# Altium footprint library PcbLib1.PcbLib: 36 footprints (part 1 of 3)
Each footprint in its own frame and in the unit in brackets; x right, y up, seen from the top. Pads: shape width x height; smd on the part's side, far side on the other; paste and mask are expansions set on the pad; w line width, h text height; cw(c..) or ccw(c..) is an arc to the next point about the centre after c.
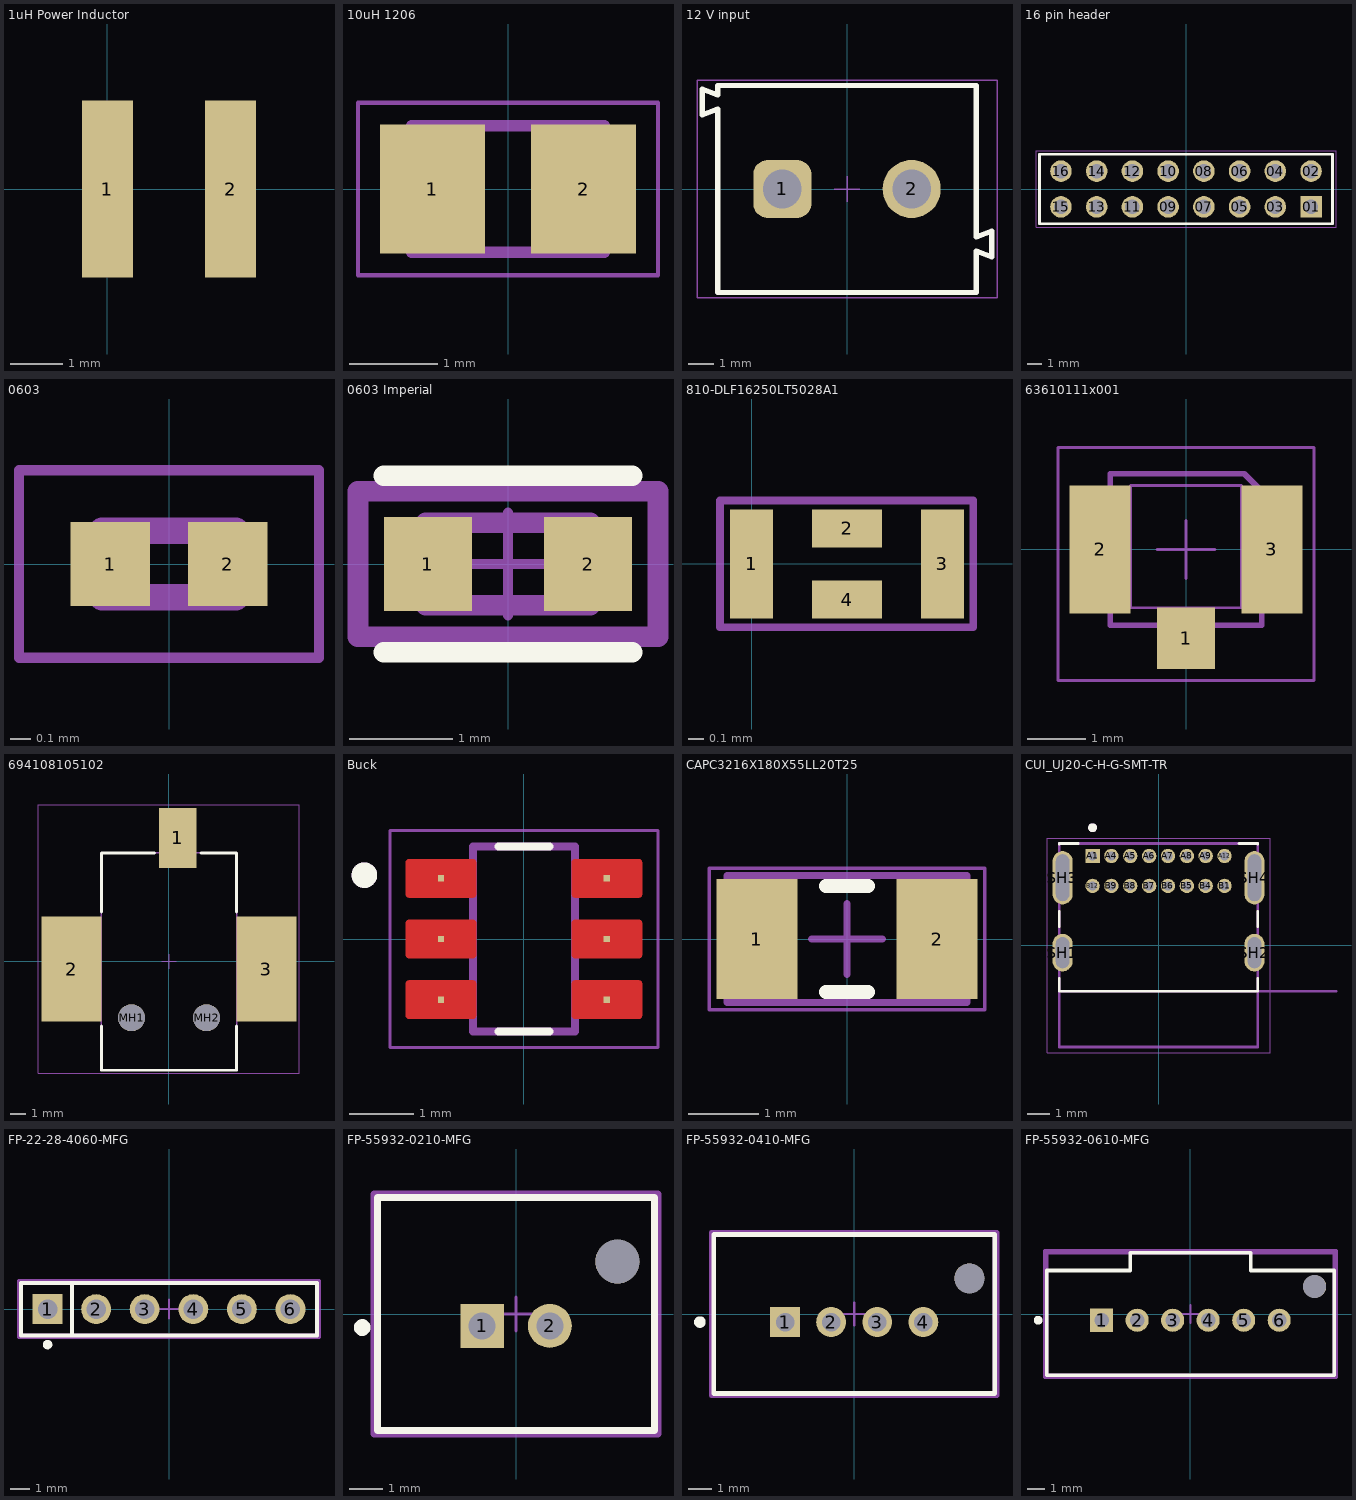
[diagram p0: the footprints below, top view; thin cyan lines are the x and y axes]

## 1uH Power Inductor [mm]
pads (2):
  rect 0.98x3.4 smd: 1(0,0) 2(2.37,0)

## 10uH 1206 [mm] "INDC2012X145N"
pads (2):
  rect 1.2x1.47 smd: 1(-0.86,0) 2(0.86,0)
Mechanical 13:
  lines w0.127: -1.1,-0.72 -1.1,0.72 1.1,0.72 1.1,-0.72 -1.1,-0.72
Mechanical 15:
  lines w0.05: -1.708,-0.983 -1.708,0.983 1.708,0.983 1.708,-0.983 -1.708,-0.983

## 12 V input [mm] "5,00mm - modular - green - Horizontal entry with pressure clamp - 10,0mm height - 02p, 691111710002"
height 10
pads (2):
  rrect50% 2.25x2.25 hole 1.5: 1(-2.5,0)
  round 2.25 hole 1.5: 2(2.5,0)
Top Overlay:
  lines w0.2: -5.6,2.865 -5,3.09 -5,-4 5,-4 5,-2.4 5.6,-2.625 5.6,-1.625 5,-1.85 5,4 -5,4 -5,3.64 -5.6,3.865 -5.6,2.865
Top 3D Body:
  lines w0.1: -5.6,2.865 -5,3.09 -5,-4 5,-4 5,-2.4 5.6,-2.625 5.6,-1.625 5,-1.85 5,4 -5,4 -5,3.64 -5.6,3.865 -5.6,2.865
Top Courtyard:
  lines w0.05: -5.8,-4.2 -5.8,4.2 5.8,4.2 5.8,-4.2 -5.8,-4.2
Top Designator:
  text ".Designator" at -7.498,-0.5 h1.5
Top Component Outline:
  lines w0.1: -5.6,2.865 -5.6,3.865 -5,3.64 -5,4 5,4 5,-1.85 5.6,-1.625 5.6,-2.625 5,-2.4 5,-4 -5,-4 -5,3.09 -5.6,2.865
Top Component Center:
  lines w0.05: -0.5,0 0.5,0 ; 0,-0.5 0,0.5
3D body "691111710002.stp": height 11.05, standoff -3.95, extent -5.6,-4 5.6,4

## 16 pin header [mm]
height 8.51
pads (16):
  rect 1.53x1.53 / inner round 1.53 / far side rect 1.53x1.53 hole 1.02: 01(8.89,-1.27)
  round 1.53 hole 1.02: 02(8.89,1.27) 03(6.35,-1.27) 04(6.35,1.27) 05(3.81,-1.27) 06(3.81,1.27) 07(1.27,-1.27) 08(1.27,1.27) 09(-1.27,-1.27) 10(-1.27,1.27) 11(-3.81,-1.27) 12(-3.81,1.27) 13(-6.35,-1.27) 14(-6.35,1.27) 15(-8.89,-1.27) 16(-8.89,1.27)
Top Overlay:
  lines w0.2: -10.415,-2.475 10.415,-2.475 10.415,2.475 -10.415,2.475 -10.415,-2.475
Mechanical 13:
  lines w0.1: -10.415,-2.475 10.415,-2.475 10.415,2.475 -10.415,2.475 -10.415,-2.475
Mechanical 15:
  lines w0.05: -10.665,-2.725 10.665,-2.725 10.665,2.725 -10.665,2.725 -10.665,-2.725

## 0603 [mm]
pads (2):
  rect 0.38x0.4 smd: 1(-0.281,0) 2(0.281,0)
Mechanical 13:
  lines w0.127: -0.32,-0.16 -0.32,0.16 0.32,0.16 0.32,-0.16 -0.32,-0.16
Mechanical 15:
  lines w0.05: -0.718,-0.448 -0.718,0.448 0.718,0.448 0.718,-0.448 -0.718,-0.448

## 0603 Imperial [mm]
pads (2):
  rect 0.859x0.912 smd paste+0 mask+0: 1(-0.777,0) 2(0.777,0)
Top Overlay:
  lines w0.2: -1.206,-0.856 1.206,-0.856 ; -1.206,0.856 1.206,0.856
Top 3D Body:
  lines w0.2: -0.8,-0.4 0.8,-0.4 0.8,0.4 -0.8,0.4 -0.8,-0.4
Top Courtyard:
  lines w0.2: -1.456,-0.706 1.456,-0.706 1.456,0.706 -1.456,0.706 -1.456,-0.706
Top Assembly:
  lines w0.2: -1.456,-0.706 1.456,-0.706 1.456,0.706 -1.456,0.706 -1.456,-0.706
Top Component Center:
  lines w0.1: -0.5,0 0.5,0 ; 0,-0.5 0,0.5
3D body "Res_Yageo_RC0603FR-07100KL_eec.STEP": height 0.25, standoff 0, extent -1.456,-0.706 1.456,0.706

## 810-DLF16250LT5028A1 [mm]
pads (4):
  rect 0.275x0.7 smd mask+0.025: 1(0,0) 3(1.225,0)
  rect 0.45x0.245 smd mask+0.025: 2(0.613,0.228) 4(0.613,-0.229)
Mechanical 15:
  lines w0.051: -0.203,-0.406 1.422,-0.406 1.422,0.406 -0.203,0.406 -0.203,-0.406

## 63610111x001 [mm] "RF CONNECTOR VERTICAL 1.25MM"
height 1.25
pads (3):
  rect 1x1.05 smd: 1(0,-1.525)
  rect 1.05x2.2 smd: 2(-1.475,0) 3(1.475,0)
Top 3D Body:
  lines w0.05: -0.95,-1 -0.95,1.1 0.95,1.1 0.95,-1 -0.95,-1
  lines w0.1: -1.3,-1.3 1.3,-1.3 1.3,1 1,1.3 -1.3,1.3 -1.3,-1.3
  text "Cutout  / prohibition  / area" at -1.05,-0.35 h0.2
Top Courtyard:
  lines w0.05: -0.5,0 0.5,0 ; 0,-0.5 0,0.5 ; -2.2,-2.25 -2.2,1.751 2.2,1.751 2.2,-2.25 -2.2,-2.25
Top Designator:
  text ".Designator" at -3.499,-0.233 h0.7
Top Component Outline:
  lines w0.1: -1.3,-1.3 -1.3,1.3 1,1.3 1.3,1 1.3,-1.3 -1.3,-1.3
3D body "63610111x001.stp": height 1.25, standoff 0, extent -1.5,-1.55 1.5,1.551

## 694108105102 [mm] "DC Power Jack Right Angled SMT ?6.4 with pegs"
height 11
pads (5):
  rect 2.5x4 smd: 1(0.6,8.25)
  rect 4x7 smd: 2(-6.5,-0.5) 3(6.5,-0.5)
  round 1.8 hole 1.8 unplated: MH1(-2.5,-3.75) MH2(2.5,-3.75)
Top Overlay:
  lines w0.2: -4.5,-4.3 -4.5,-7.25 4.5,-7.25 4.5,-4.3 ; -4.5,3.3 -4.5,7.25 -0.95,7.25 ; 2.15,7.25 4.5,7.25 4.5,3.3
Top 3D Body:
  lines w0.1: -4.5,-2.8 -7.6,-2.8 -7.6,1.8 -4.5,1.8 ; -0.3,7.25 -0.3,9.75 1.5,9.75 1.5,7.25 ; 4.5,-2.8 7.6,-2.8 7.6,1.8 4.5,1.8 ; -4.5,-7.25 -4.5,7.25 4.5,7.25 4.5,-7.25 -4.5,-7.25
Top Courtyard:
  lines w0.05: -0.5,0 0.5,0 ; 0,-0.5 0,0.5 ; -8.7,-7.45 8.7,-7.45 8.7,10.45 -8.7,10.45 -8.7,-7.45
Top Designator:
  text ".Designator" at -7.498,-0.5 h1.5
Top Component Outline:
  lines w0.1: -4.5,-2.8 -7.6,-2.8 -7.6,1.8 -4.5,1.8 ; -0.3,7.25 -0.3,9.75 1.5,9.75 1.5,7.25 ; 4.5,-2.8 7.6,-2.8 7.6,1.8 4.5,1.8 ; -4.5,-7.25 4.5,-7.25 4.5,7.25 -4.5,7.25 -4.5,-7.25
3D body "694108105102.stp": height 11.05, standoff -1.95, extent -7.6,-7.25 7.6,9.75

## Buck [mm] "IC_TPS560430X3FDBVR"
height 1.45
pads (6):
  rect 0.1x0.1 smd paste-1 mask+0: 1(-1.3,0.95) 2(-1.3,0) 3(-1.3,-0.95) 4(1.3,-0.95) 5(1.3,0) 6(1.3,0.95)
Top Layer:
  region: -0.792,0.299 -0.79,0.299 -0.787,0.298 -0.785,0.298 -0.782,0.297 -0.78,0.296 -0.777,0.295 -0.775,0.293 -0.773,0.292 -0.771,0.29 -0.769,0.289 -0.767,0.287 -0.765,0.285 -0.763,0.283 -0.761,0.281 -0.76,0.279 -0.758,0.277 -0.757,0.275 -0.755,0.273 -0.754,0.27 -0.753,0.268 -0.752,0.265 -0.752,0.263 -0.751,0.26 -0.751,0.258 -0.75,0.255 -0.75,0.253 -0.75,0.25 -0.75,-0.25 -0.75,-0.253 -0.75,-0.255 -0.751,-0.258 -0.751,-0.26 -0.752,-0.263 -0.752,-0.265 -0.753,-0.268 -0.754,-0.27 -0.755,-0.273 -0.757,-0.275 -0.758,-0.277 -0.76,-0.279 -0.761,-0.281 -0.763,-0.283 -0.765,-0.285 -0.767,-0.287 -0.769,-0.289 -0.771,-0.29 -0.773,-0.292 -0.775,-0.293 -0.777,-0.295 -0.78,-0.296 -0.782,-0.297 -0.785,-0.298 -0.787,-0.298 -0.79,-0.299 -0.792,-0.299 -0.795,-0.3 -1.805,-0.3 -1.808,-0.299 -1.81,-0.299 -1.813,-0.298 -1.815,-0.298 -1.818,-0.297 -1.82,-0.296 -1.823,-0.295 -1.825,-0.293 -1.827,-0.292 -1.829,-0.29 -1.831,-0.289 -1.833,-0.287 -1.835,-0.285 -1.837,-0.283 -1.839,-0.281 -1.84,-0.279 -1.842,-0.277 -1.843,-0.275 -1.845,-0.273 -1.846,-0.27 -1.847,-0.268 -1.848,-0.265 -1.848,-0.263 -1.849,-0.26 -1.849,-0.258 -1.85,-0.255 -1.85,-0.253 -1.85,-0.25 -1.85,0.25 -1.85,0.253 -1.85,0.255 -1.849,0.258 -1.849,0.26 -1.848,0.263 -1.848,0.265 -1.847,0.268 -1.846,0.27 -1.845,0.273 -1.843,0.275 -1.842,0.277 -1.84,0.279 -1.839,0.281 -1.837,0.283 -1.835,0.285 -1.833,0.287 -1.831,0.289 -1.829,0.29 -1.827,0.292 -1.825,0.293 -1.823,0.295 -1.82,0.296 -1.818,0.297 -1.815,0.298 -1.813,0.298 -1.81,0.299 -1.808,0.299 -1.805,0.3 -0.795,0.3
  region: -0.792,1.249 -0.79,1.249 -0.787,1.248 -0.785,1.248 -0.782,1.247 -0.78,1.246 -0.777,1.245 -0.775,1.243 -0.773,1.242 -0.771,1.24 -0.769,1.239 -0.767,1.237 -0.765,1.235 -0.763,1.233 -0.761,1.231 -0.76,1.229 -0.758,1.227 -0.757,1.225 -0.755,1.223 -0.754,1.22 -0.753,1.218 -0.752,1.215 -0.752,1.213 -0.751,1.21 -0.751,1.208 -0.75,1.205 -0.75,1.203 -0.75,1.2 -0.75,0.7 -0.75,0.697 -0.75,0.695 -0.751,0.692 -0.751,0.69 -0.752,0.687 -0.752,0.685 -0.753,0.682 -0.754,0.68 -0.755,0.677 -0.757,0.675 -0.758,0.673 -0.76,0.671 -0.761,0.669 -0.763,0.667 -0.765,0.665 -0.767,0.663 -0.769,0.661 -0.771,0.66 -0.773,0.658 -0.775,0.657 -0.777,0.655 -0.78,0.654 -0.782,0.653 -0.785,0.652 -0.787,0.652 -0.79,0.651 -0.792,0.651 -0.795,0.65 -1.805,0.65 -1.808,0.651 -1.81,0.651 -1.813,0.652 -1.815,0.652 -1.818,0.653 -1.82,0.654 -1.823,0.655 -1.825,0.657 -1.827,0.658 -1.829,0.66 -1.831,0.661 -1.833,0.663 -1.835,0.665 -1.837,0.667 -1.839,0.669 -1.84,0.671 -1.842,0.673 -1.843,0.675 -1.845,0.677 -1.846,0.68 -1.847,0.682 -1.848,0.685 -1.848,0.687 -1.849,0.69 -1.849,0.692 -1.85,0.695 -1.85,0.697 -1.85,0.7 -1.85,1.2 -1.85,1.203 -1.85,1.205 -1.849,1.208 -1.849,1.21 -1.848,1.213 -1.848,1.215 -1.847,1.218 -1.846,1.22 -1.845,1.223 -1.843,1.225 -1.842,1.227 -1.84,1.229 -1.839,1.231 -1.837,1.233 -1.835,1.235 -1.833,1.237 -1.831,1.239 -1.829,1.24 -1.827,1.242 -1.825,1.243 -1.823,1.245 -1.82,1.246 -1.818,1.247 -1.815,1.248 -1.813,1.248 -1.81,1.249 -1.808,1.249 -1.805,1.25 -0.795,1.25
  region: -0.792,-0.651 -0.79,-0.651 -0.787,-0.652 -0.785,-0.652 -0.782,-0.653 -0.78,-0.654 -0.777,-0.655 -0.775,-0.657 -0.773,-0.658 -0.771,-0.66 -0.769,-0.661 -0.767,-0.663 -0.765,-0.665 -0.763,-0.667 -0.761,-0.669 -0.76,-0.671 -0.758,-0.673 -0.757,-0.675 -0.755,-0.677 -0.754,-0.68 -0.753,-0.682 -0.752,-0.685 -0.752,-0.687 -0.751,-0.69 -0.751,-0.692 -0.75,-0.695 -0.75,-0.697 -0.75,-0.7 -0.75,-1.2 -0.75,-1.203 -0.75,-1.205 -0.751,-1.208 -0.751,-1.21 -0.752,-1.213 -0.752,-1.215 -0.753,-1.218 -0.754,-1.22 -0.755,-1.223 -0.757,-1.225 -0.758,-1.227 -0.76,-1.229 -0.761,-1.231 -0.763,-1.233 -0.765,-1.235 -0.767,-1.237 -0.769,-1.239 -0.771,-1.24 -0.773,-1.242 -0.775,-1.243 -0.777,-1.245 -0.78,-1.246 -0.782,-1.247 -0.785,-1.248 -0.787,-1.248 -0.79,-1.249 -0.792,-1.249 -0.795,-1.25 -1.805,-1.25 -1.808,-1.249 -1.81,-1.249 -1.813,-1.248 -1.815,-1.248 -1.818,-1.247 -1.82,-1.246 -1.823,-1.245 -1.825,-1.243 -1.827,-1.242 -1.829,-1.24 -1.831,-1.239 -1.833,-1.237 -1.835,-1.235 -1.837,-1.233 -1.839,-1.231 -1.84,-1.229 -1.842,-1.227 -1.843,-1.225 -1.845,-1.223 -1.846,-1.22 -1.847,-1.218 -1.848,-1.215 -1.848,-1.213 -1.849,-1.21 -1.849,-1.208 -1.85,-1.205 -1.85,-1.203 -1.85,-1.2 -1.85,-0.7 -1.85,-0.697 -1.85,-0.695 -1.849,-0.692 -1.849,-0.69 -1.848,-0.687 -1.848,-0.685 -1.847,-0.682 -1.846,-0.68 -1.845,-0.677 -1.843,-0.675 -1.842,-0.673 -1.84,-0.671 -1.839,-0.669 -1.837,-0.667 -1.835,-0.665 -1.833,-0.663 -1.831,-0.661 -1.829,-0.66 -1.827,-0.658 -1.825,-0.657 -1.823,-0.655 -1.82,-0.654 -1.818,-0.653 -1.815,-0.652 -1.813,-0.652 -1.81,-0.651 -1.808,-0.651 -1.805,-0.65 -0.795,-0.65
  region: 1.808,0.299 1.81,0.299 1.813,0.298 1.815,0.298 1.818,0.297 1.82,0.296 1.823,0.295 1.825,0.293 1.827,0.292 1.829,0.29 1.831,0.289 1.833,0.287 1.835,0.285 1.837,0.283 1.839,0.281 1.84,0.279 1.842,0.277 1.843,0.275 1.845,0.273 1.846,0.27 1.847,0.268 1.848,0.265 1.848,0.263 1.849,0.26 1.849,0.258 1.85,0.255 1.85,0.253 1.85,0.25 1.85,-0.25 1.85,-0.253 1.85,-0.255 1.849,-0.258 1.849,-0.26 1.848,-0.263 1.848,-0.265 1.847,-0.268 1.846,-0.27 1.845,-0.273 1.843,-0.275 1.842,-0.277 1.84,-0.279 1.839,-0.281 1.837,-0.283 1.835,-0.285 1.833,-0.287 1.831,-0.289 1.829,-0.29 1.827,-0.292 1.825,-0.293 1.823,-0.295 1.82,-0.296 1.818,-0.297 1.815,-0.298 1.813,-0.298 1.81,-0.299 1.808,-0.299 1.805,-0.3 0.795,-0.3 0.792,-0.299 0.79,-0.299 0.787,-0.298 0.785,-0.298 0.782,-0.297 0.78,-0.296 0.777,-0.295 0.775,-0.293 0.773,-0.292 0.771,-0.29 0.769,-0.289 0.767,-0.287 0.765,-0.285 0.763,-0.283 0.761,-0.281 0.76,-0.279 0.758,-0.277 0.757,-0.275 0.755,-0.273 0.754,-0.27 0.753,-0.268 0.752,-0.265 0.752,-0.263 0.751,-0.26 0.751,-0.258 0.75,-0.255 0.75,-0.253 0.75,-0.25 0.75,0.25 0.75,0.253 0.75,0.255 0.751,0.258 0.751,0.26 0.752,0.263 0.752,0.265 0.753,0.268 0.754,0.27 0.755,0.273 0.757,0.275 0.758,0.277 0.76,0.279 0.761,0.281 0.763,0.283 0.765,0.285 0.767,0.287 0.769,0.289 0.771,0.29 0.773,0.292 0.775,0.293 0.777,0.295 0.78,0.296 0.782,0.297 0.785,0.298 0.787,0.298 0.79,0.299 0.792,0.299 0.795,0.3 1.805,0.3
  region: 1.808,1.249 1.81,1.249 1.813,1.248 1.815,1.248 1.818,1.247 1.82,1.246 1.823,1.245 1.825,1.243 1.827,1.242 1.829,1.24 1.831,1.239 1.833,1.237 1.835,1.235 1.837,1.233 1.839,1.231 1.84,1.229 1.842,1.227 1.843,1.225 1.845,1.223 1.846,1.22 1.847,1.218 1.848,1.215 1.848,1.213 1.849,1.21 1.849,1.208 1.85,1.205 1.85,1.203 1.85,1.2 1.85,0.7 1.85,0.697 1.85,0.695 1.849,0.692 1.849,0.69 1.848,0.687 1.848,0.685 1.847,0.682 1.846,0.68 1.845,0.677 1.843,0.675 1.842,0.673 1.84,0.671 1.839,0.669 1.837,0.667 1.835,0.665 1.833,0.663 1.831,0.661 1.829,0.66 1.827,0.658 1.825,0.657 1.823,0.655 1.82,0.654 1.818,0.653 1.815,0.652 1.813,0.652 1.81,0.651 1.808,0.651 1.805,0.65 0.795,0.65 0.792,0.651 0.79,0.651 0.787,0.652 0.785,0.652 0.782,0.653 0.78,0.654 0.777,0.655 0.775,0.657 0.773,0.658 0.771,0.66 0.769,0.661 0.767,0.663 0.765,0.665 0.763,0.667 0.761,0.669 0.76,0.671 0.758,0.673 0.757,0.675 0.755,0.677 0.754,0.68 0.753,0.682 0.752,0.685 0.752,0.687 0.751,0.69 0.751,0.692 0.75,0.695 0.75,0.697 0.75,0.7 0.75,1.2 0.75,1.203 0.75,1.205 0.751,1.208 0.751,1.21 0.752,1.213 0.752,1.215 0.753,1.218 0.754,1.22 0.755,1.223 0.757,1.225 0.758,1.227 0.76,1.229 0.761,1.231 0.763,1.233 0.765,1.235 0.767,1.237 0.769,1.239 0.771,1.24 0.773,1.242 0.775,1.243 0.777,1.245 0.78,1.246 0.782,1.247 0.785,1.248 0.787,1.248 0.79,1.249 0.792,1.249 0.795,1.25 1.805,1.25
  region: 1.808,-0.651 1.81,-0.651 1.813,-0.652 1.815,-0.652 1.818,-0.653 1.82,-0.654 1.823,-0.655 1.825,-0.657 1.827,-0.658 1.829,-0.66 1.831,-0.661 1.833,-0.663 1.835,-0.665 1.837,-0.667 1.839,-0.669 1.84,-0.671 1.842,-0.673 1.843,-0.675 1.845,-0.677 1.846,-0.68 1.847,-0.682 1.848,-0.685 1.848,-0.687 1.849,-0.69 1.849,-0.692 1.85,-0.695 1.85,-0.697 1.85,-0.7 1.85,-1.2 1.85,-1.203 1.85,-1.205 1.849,-1.208 1.849,-1.21 1.848,-1.213 1.848,-1.215 1.847,-1.218 1.846,-1.22 1.845,-1.223 1.843,-1.225 1.842,-1.227 1.84,-1.229 1.839,-1.231 1.837,-1.233 1.835,-1.235 1.833,-1.237 1.831,-1.239 1.829,-1.24 1.827,-1.242 1.825,-1.243 1.823,-1.245 1.82,-1.246 1.818,-1.247 1.815,-1.248 1.813,-1.248 1.81,-1.249 1.808,-1.249 1.805,-1.25 0.795,-1.25 0.792,-1.249 0.79,-1.249 0.787,-1.248 0.785,-1.248 0.782,-1.247 0.78,-1.246 0.777,-1.245 0.775,-1.243 0.773,-1.242 0.771,-1.24 0.769,-1.239 0.767,-1.237 0.765,-1.235 0.763,-1.233 0.761,-1.231 0.76,-1.229 0.758,-1.227 0.757,-1.225 0.755,-1.223 0.754,-1.22 0.753,-1.218 0.752,-1.215 0.752,-1.213 0.751,-1.21 0.751,-1.208 0.75,-1.205 0.75,-1.203 0.75,-1.2 0.75,-0.7 0.75,-0.697 0.75,-0.695 0.751,-0.692 0.751,-0.69 0.752,-0.687 0.752,-0.685 0.753,-0.682 0.754,-0.68 0.755,-0.677 0.757,-0.675 0.758,-0.673 0.76,-0.671 0.761,-0.669 0.763,-0.667 0.765,-0.665 0.767,-0.663 0.769,-0.661 0.771,-0.66 0.773,-0.658 0.775,-0.657 0.777,-0.655 0.78,-0.654 0.782,-0.653 0.785,-0.652 0.787,-0.652 0.79,-0.651 0.792,-0.651 0.795,-0.65 1.805,-0.65
Top Overlay:
  circle w0.2: c-2.5,1 r0.1
  lines w0.127: -0.4,-1.45 0.4,-1.45 ; -0.4,1.45 0.4,1.45
Top Paste:
  drawing of 6 lines, arcs and shapes, not listed
Top Solder:
  drawing of 6 lines, arcs and shapes, not listed
Mechanical 13:
  circle w0.2: c-2.5,1 r0.1
  lines w0.127: -0.8,-1.45 -0.8,1.45 0.8,1.45 0.8,-1.45 -0.8,-1.45
Mechanical 15:
  lines w0.05: -2.1,-1.7 -2.1,1.7 2.1,1.7 2.1,-1.7 -2.1,-1.7

## CAPC3216X180X55LL20T25 [mm] "Chip Capacitor, 2-Leads, Body 3.4x1.8mm, IPC High Density"
height 1.8
pads (2):
  rect 1.15x1.7 smd: 1(-1.275,0) 2(1.275,0)
Top Overlay:
  lines w0.2: -0.3,-0.75 0.3,-0.75 ; -0.3,0.75 0.3,0.75
Mechanical 13:
  lines w0.1: -1.7,-0.9 -1.7,0.9 1.7,0.9 1.7,-0.9 -1.7,-0.9
Mechanical 15:
  lines w0.05: -1.95,-1 -1.95,1 1.95,1 1.95,-1 -1.95,-1
  lines w0.1: -0.5,0 0.5,0 ; 0,-0.5 0,0.5
3D body "CAPC3216X18L.step": height 1.8, standoff 0, extent -1.7,-0.9 1.7,0.9

## CUI_UJ20-C-H-G-SMT-TR [mm]
height 3.66
pads (20):
  rect 0.65x0.65 / inner round 0.65 / far side rect 0.65x0.65 hole 0.4: A1(-2.975,4.025)
  round 0.65 hole 0.4: A4(-2.125,4.025) A5(-1.275,4.025) A6(-0.425,4.025) A7(0.425,4.025) A8(1.275,4.025) A9(2.125,4.025) A12(2.975,4.025) B1(2.975,2.675) B4(2.125,2.675) B5(1.275,2.675) B6(0.425,2.675) B7(-0.425,2.675) B8(-1.275,2.675) B9(-2.125,2.675) B12(-2.975,2.675)
  oval 0.9x1.7 hole 0.6 slot 1.4 at 90 deg: SH1(-4.325,-0.335) SH2(4.325,-0.335)
  oval 0.9x2.4 hole 0.6 slot 2.1 at 90 deg: SH3(-4.325,3.045) SH4(4.325,3.045)
Top Overlay:
  circle w0.2: c-2.975,5.3 r0.1
  lines w0.127: -4.475,-1.505 -4.475,-2.075 4.475,-2.075 4.475,-1.505 ; -4.475,0.835 -4.475,1.525 ; -4.475,4.565 -4.475,4.585 -3.62,4.585 ; 3.62,4.585 4.475,4.585 4.475,4.565 ; 4.475,0.835 4.475,1.525
Mechanical 13:
  circle w0.2: c-2.975,5.3 r0.1
  lines w0.127: 8,-2.075 -4.475,-2.075 ; -4.475,-2.075 -4.475,4.585 4.475,4.585 4.475,-4.585 -4.475,-4.585 -4.475,-2.075
  text "PCB EDGE" at 5.5,-1.9 h0.81
Mechanical 15:
  lines w0.05: -5.025,-4.835 5.025,-4.835 5.025,4.835 -5.025,4.835 -5.025,-4.835
3D body "step_temp.STEP": height 3.46, standoff -2.1, extent -4.585,-4.598 4.445,4.572

## FP-22-28-4060-MFG [mm]
pads (6):
  rect 1.57x1.57 hole 1.02 paste-2539.97 mask+0: 1(-6.35,0)
  round 1.57 hole 1.02 paste-2539.97 mask+0: 2(-3.81,0) 3(-1.27,0) 4(1.27,0) 5(3.81,0) 6(6.35,0)
Top Overlay:
  circle w0.25: c-6.35,-1.85 r0.125
  lines w0.2: -5.08,-1.37 -5.08,1.37 ; -7.745,-1.37 7.745,-1.37 7.745,1.37 -7.745,1.37 -7.745,-1.37
Top 3D Body:
  lines w0.2: -7.745,-1.37 7.745,-1.37 7.745,1.37 -7.745,1.37 -7.745,-1.37
Top Courtyard:
  lines w0.2: -7.845,-1.47 7.845,-1.47 7.845,1.47 -7.845,1.47 -7.845,-1.47
Top Assembly:
  lines w0.2: -7.845,-1.47 7.845,-1.47 7.845,1.47 -7.845,1.47 -7.845,-1.47
  text ".Designator" at 0,0.188 h1
Top Component Center:
  lines w0.1: -0.5,0 0.5,0 ; 0,-0.5 0,0.5
3D body "Conn_Molex_22-28-4060_eec.STEP": height 0.25, standoff 0, extent -7.845,-1.47 7.845,1.47

## FP-55932-0210-MFG [mm]
pads (3):
  rect 1.3x1.3 hole 0.8 paste-2539.97 mask+0: 1(-1,-0.35)
  round 1.3 hole 0.8 paste-2539.97 mask+0: 2(1,-0.35)
  round 1.3 hole 1.3 unplated paste-2539.97 mask+0: ""(3,1.55)
Top Overlay:
  circle w0.25: c-4.55,-0.4 r0.125
  lines w0.2: -4.1,-3.45 4.1,-3.45 4.1,3.45 -4.1,3.45 -4.1,-3.45
Top 3D Body:
  lines w0.2: -4.1,-3.45 4.1,-3.45 4.1,3.45 -4.1,3.45 -4.1,-3.45
Top Courtyard:
  lines w0.2: -4.2,-3.55 4.2,-3.55 4.2,3.55 -4.2,3.55 -4.2,-3.55
Top Assembly:
  lines w0.2: -4.2,-3.55 4.2,-3.55 4.2,3.55 -4.2,3.55 -4.2,-3.55
  text ".Designator" at 0,0 h1
Top Component Center:
  lines w0.1: -0.5,0 0.5,0 ; 0,-0.5 0,0.5
3D body "Conn_Molex_55932-0210_eec.STEP": height 0.25, standoff 0, extent -4.2,-3.55 4.2,3.55

## FP-55932-0410-MFG [mm]
pads (5):
  rect 1.3x1.3 hole 0.8 paste-2539.97 mask+0: 1(-3,-0.35)
  round 1.3 hole 0.8 paste-2539.97 mask+0: 2(-1,-0.35) 3(1,-0.35) 4(3,-0.35)
  round 1.3 hole 1.3 unplated paste-2539.97 mask+0: ""(5,1.55)
Top Overlay:
  circle w0.25: c-6.7,-0.35 r0.125
  lines w0.2: -6.1,-3.45 -6.1,3.45 6.1,3.45 6.1,-3.45 -6.1,-3.45
Top 3D Body:
  lines w0.2: -6.1,-3.45 -6.1,3.45 6.1,3.45 6.1,-3.45 -6.1,-3.45
Top Courtyard:
  lines w0.2: -6.2,-3.55 -6.2,3.55 6.2,3.55 6.2,-3.55 -6.2,-3.55
Top Assembly:
  lines w0.2: -6.2,-3.55 -6.2,3.55 6.2,3.55 6.2,-3.55 -6.2,-3.55
  text ".Designator" at 0,0.188 h1
Top Component Center:
  lines w0.1: -0.5,0 0.5,0 ; 0,-0.5 0,0.5
3D body "Conn_Molex_55932-0410_eec.STEP": height 0.25, standoff 0, extent -6.2,-3.55 6.2,3.55

## FP-55932-0610-MFG [mm]
pads (7):
  rect 1.3x1.3 hole 0.8 paste-2539.97 mask+0: 1(-5,-0.35)
  round 1.3 hole 0.8 paste-2539.97 mask+0: 2(-3,-0.35) 3(-1,-0.35) 4(1,-0.35) 5(3,-0.35) 6(5,-0.35)
  round 1.3 hole 1.3 unplated paste-2539.97 mask+0: ""(7,1.55)
Top Overlay:
  circle w0.25: c-8.575,-0.35 r0.125
  lines w0.2: -8.1,-3.45 -8.1,2.45 -3.39,2.45 -3.39,3.45 3.39,3.45 3.39,2.45 8.1,2.45 8.1,-3.45 -8.1,-3.45
Top 3D Body:
  lines w0.2: -8.1,-3.45 -8.1,3.45 8.1,3.45 8.1,-3.45 -8.1,-3.45
Top Courtyard:
  lines w0.2: -8.2,-3.55 -8.2,3.55 8.2,3.55 8.2,-3.55 -8.2,-3.55
Top Assembly:
  lines w0.2: -8.2,-3.55 -8.2,3.55 8.2,3.55 8.2,-3.55 -8.2,-3.55
  text ".Designator" at 0,0.188 h1
Top Component Center:
  lines w0.1: -0.5,0 0.5,0 ; 0,-0.5 0,0.5
3D body "Conn_Molex_55932-0610_eec.STEP": height 0.25, standoff 0, extent -8.2,-3.55 8.2,3.55